# Altium footprint library Трансформаторы импульсные (открытого исполения).PcbLib: 55 footprints (part 3 of 4)
Each footprint in its own frame and in the unit in brackets; x right, y up, seen from the top. Pads: shape width x height; smd on the part's side, far side on the other; paste and mask are expansions set on the pad; w line width, h text height; cw(c..) or ccw(c..) is an arc to the next point about the centre after c.
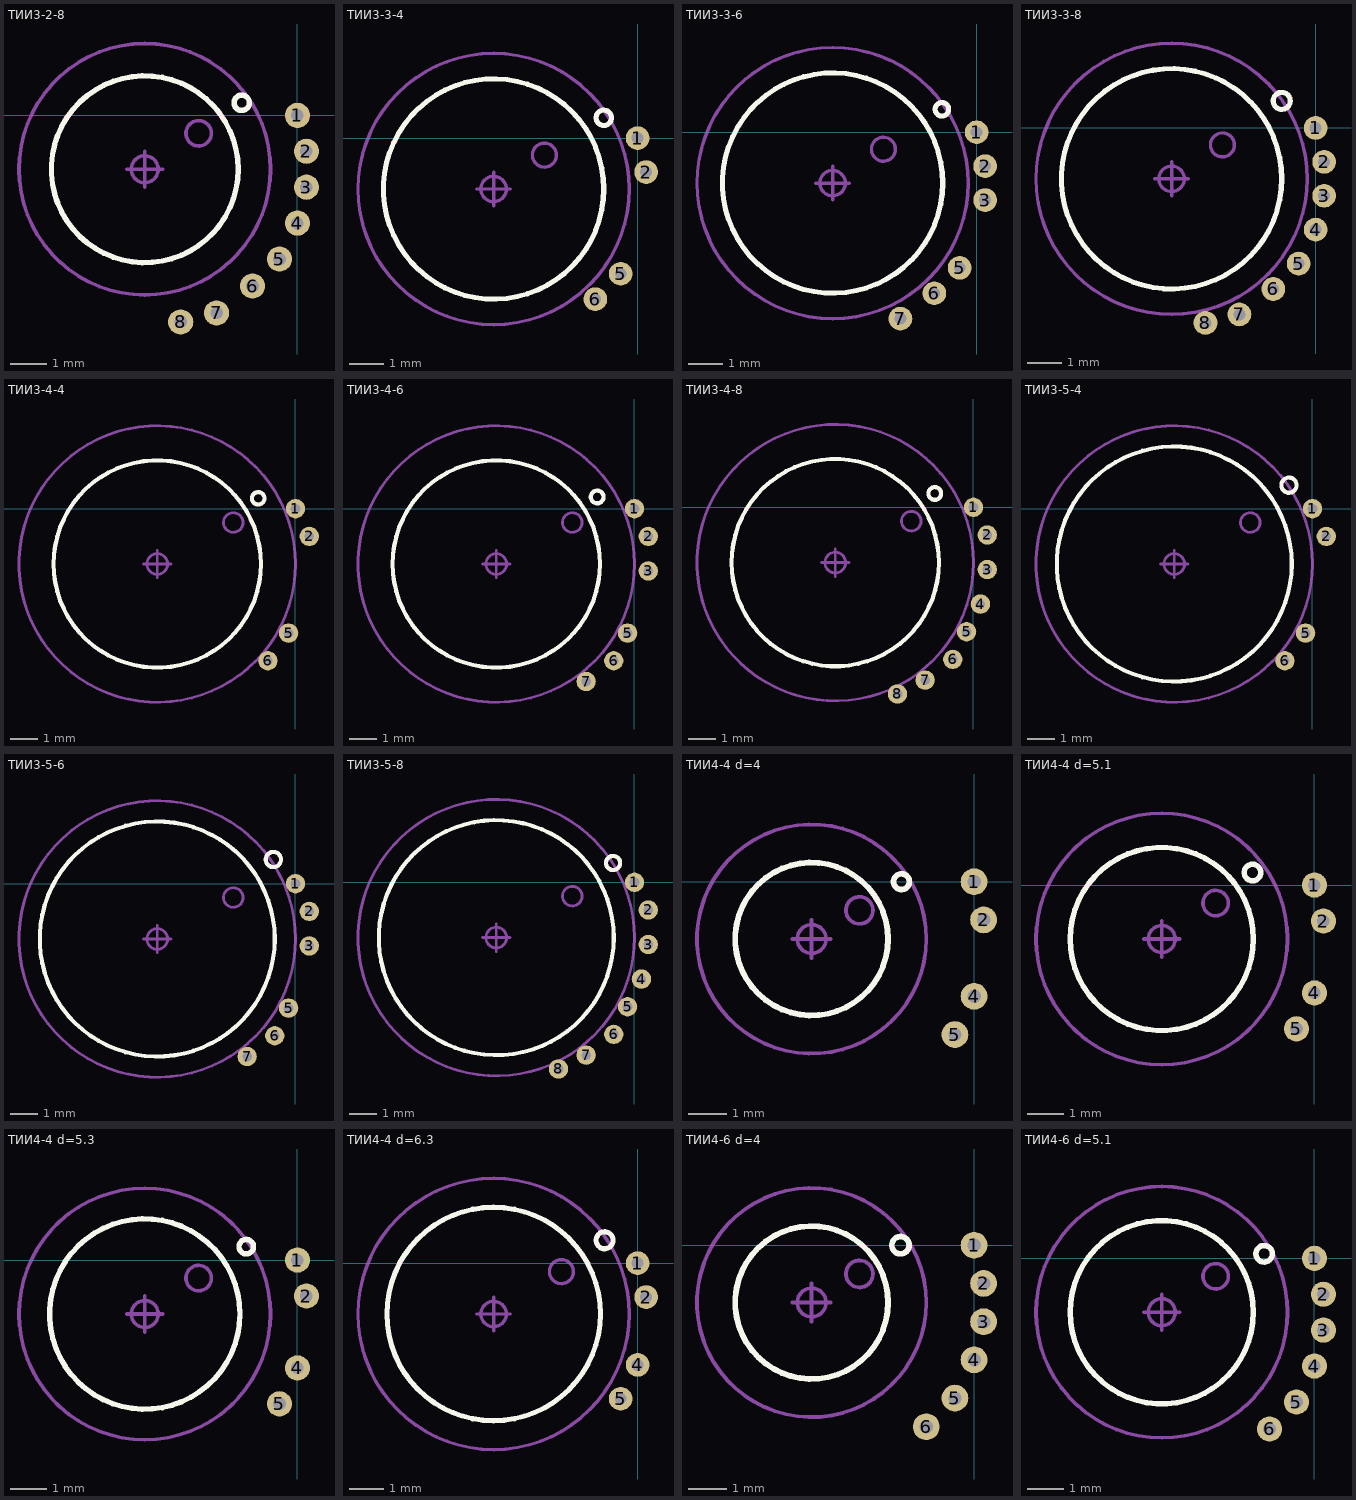
[diagram p2: the footprints below, top view; thin cyan lines are the x and y axes]

## ТИИ3-2-8 [mm] "5,2x5,2x1,7, 0.15g"
height 1.7
pads (8):
  round 0.7 hole 0.35: 1(0,0) 2(0.25,-1) 3(0.25,-2) 4(0,-3) 5(-0.5,-4) 6(-1.25,-4.75) 7(-2.25,-5.5) 8(-3.25,-5.75)
Top Overlay:
  circle w0.15: c-4.25,-1.5 r2.6
  circle w0.15: c-1.55,0.35 r0.214
Top Assembly:
  circle w0.1: c-4.25,-1.5 r2.6
  circle w0.1: c-2.75,-0.5 r0.354
Top Courtyard (Mech15):
  circle w0.1: c-4.25,-1.5 r0.375
  circle w0.1: c-4.25,-1.5 r3.5
  lines w0.1: -4.75,-1.5 -3.75,-1.5 ; -4.25,-2 -4.25,-1
3D body: height 0.25, standoff 0, extent -4.25,-1.5 -4.25,-1.5
3D body: height 0.25, standoff 0, extent -12,-5.5 -12,-5.5

## ТИИ3-3-4 [mm] "6,5x6,5x1,8, 0.25g"
height 1.8
pads (4):
  round 0.7 hole 0.35: 1(0,0) 2(0.25,-1) 5(-0.5,-4) 6(-1.25,-4.75)
Top Overlay:
  circle w0.15: c-1,0.6 r0.226
  circle w0.15: c-4.25,-1.5 r3.25
Top Assembly:
  circle w0.1: c-2.75,-0.5 r0.354
  circle w0.1: c-4.25,-1.5 r3.25
Top Courtyard (Mech15):
  circle w0.1: c-4.25,-1.5 r4
  circle w0.1: c-4.25,-1.5 r0.375
  lines w0.1: -4.75,-1.5 -3.75,-1.5 ; -4.25,-2 -4.25,-1
3D body: height 0.25, standoff 0, extent -12,-5.5 -12,-5.5
3D body: height 0.25, standoff 0, extent -4.25,-1.5 -4.25,-1.5

## ТИИ3-3-6 [mm] "6,5x6,5x1,8, 0.25g"
height 1.8
pads (6):
  round 0.7 hole 0.35: 1(0,0) 2(0.25,-1) 3(0.25,-2) 5(-0.5,-4) 6(-1.25,-4.75) 7(-2.25,-5.5)
Top Overlay:
  circle w0.15: c-1.025,0.675 r0.2
  circle w0.15: c-4.25,-1.5 r3.25
Top Assembly:
  circle w0.1: c-2.75,-0.5 r0.354
  circle w0.1: c-4.25,-1.5 r3.25
Top Courtyard (Mech15):
  circle w0.1: c-4.25,-1.5 r4
  circle w0.1: c-4.25,-1.5 r0.375
  lines w0.1: -4.75,-1.5 -3.75,-1.5 ; -4.25,-2 -4.25,-1
3D body: height 0.25, standoff 0, extent -12,-5.5 -12,-5.5
3D body: height 0.25, standoff 0, extent -4.25,-1.5 -4.25,-1.5

## ТИИ3-3-8 [mm] "6,5x6,5x1,8, 0.25g"
height 1.8
pads (8):
  round 0.7 hole 0.35: 1(0,0) 2(0.25,-1) 3(0.25,-2) 4(0,-3) 5(-0.5,-4) 6(-1.25,-4.75) 7(-2.25,-5.5) 8(-3.25,-5.75)
Top Overlay:
  circle w0.15: c-1,0.8 r0.251
  circle w0.15: c-4.25,-1.5 r3.25
Top Assembly:
  circle w0.1: c-2.75,-0.5 r0.354
  circle w0.1: c-4.25,-1.5 r3.25
Top Courtyard (Mech15):
  circle w0.1: c-4.25,-1.5 r4
  circle w0.1: c-4.25,-1.5 r0.375
  lines w0.1: -4.75,-1.5 -3.75,-1.5 ; -4.25,-2 -4.25,-1
3D body: height 0.25, standoff 0, extent -12,-5.5 -12,-5.5
3D body: height 0.25, standoff 0, extent -4.25,-1.5 -4.25,-1.5

## ТИИ3-4-4 [mm] "7,5x7,5x1,8, 0.4g"
height 1.8
pads (4):
  round 0.7 hole 0.35: 1(0,0) 2(0.5,-1) 5(-0.25,-4.5) 6(-1,-5.5)
Top Overlay:
  circle w0.15: c-1.35,0.375 r0.226
  circle w0.15: c-5,-2 r3.75
Top Assembly:
  circle w0.1: c-2.25,-0.5 r0.354
  circle w0.1: c-5,-2 r3.75
Top Courtyard (Mech15):
  circle w0.1: c-5,-2 r5
  circle w0.1: c-5,-2 r0.375
  lines w0.1: -5.5,-2 -4.5,-2 ; -5,-2.5 -5,-1.5
3D body: height 0.25, standoff 0, extent -12.75,-6 -12.75,-6
3D body: height 0.25, standoff 0, extent -5,-2 -5,-2

## ТИИ3-4-6 [mm] "7,5x7,5x1,8, 0.4g"
height 1.8
pads (6):
  round 0.7 hole 0.35: 1(0,0) 2(0.5,-1) 3(0.5,-2.25) 5(-0.25,-4.5) 6(-0.75,-5.5) 7(-1.75,-6.25)
Top Overlay:
  circle w0.15: c-5,-2 r3.75
  circle w0.15: c-1.35,0.425 r0.23
Top Assembly:
  circle w0.1: c-5,-2 r3.75
  circle w0.1: c-2.25,-0.5 r0.354
Top Courtyard (Mech15):
  circle w0.1: c-5,-2 r0.375
  circle w0.1: c-5,-2 r5
  lines w0.1: -5.5,-2 -4.5,-2 ; -5,-2.5 -5,-1.5
3D body: height 0.25, standoff 0, extent -5,-2 -5,-2
3D body: height 0.25, standoff 0, extent -12.75,-6 -12.75,-6

## ТИИ3-4-8 [mm] "7,5x7,5x1,8, 0.4g"
height 1.8
pads (8):
  round 0.7 hole 0.35: 1(0,0) 2(0.5,-1) 3(0.5,-2.25) 4(0.25,-3.5) 5(-0.25,-4.5) 6(-0.75,-5.5) 7(-1.75,-6.25) 8(-2.75,-6.75)
Top Overlay:
  circle w0.15: c-1.4,0.5 r0.23
  circle w0.15: c-5,-2 r3.75
Top Assembly:
  circle w0.1: c-2.25,-0.5 r0.354
  circle w0.1: c-5,-2 r3.75
Top Courtyard (Mech15):
  circle w0.1: c-5,-2 r5
  circle w0.1: c-5,-2 r0.375
  lines w0.1: -5.5,-2 -4.5,-2 ; -5,-2.5 -5,-1.5
3D body: height 0.25, standoff 0, extent -12.75,-6 -12.75,-6
3D body: height 0.25, standoff 0, extent -5,-2 -5,-2

## ТИИ3-5-4 [mm] "8,5x8,5x2,0, 0.6g"
height 2
pads (4):
  round 0.7 hole 0.35: 1(0,0) 2(0.5,-1) 5(-0.25,-4.5) 6(-1,-5.5)
Top Overlay:
  circle w0.15: c-0.85,0.85 r0.275
  circle w0.15: c-5,-2 r4.25
Top Assembly:
  circle w0.1: c-2.25,-0.5 r0.354
  circle w0.1: c-5,-2 r4.25
Top Courtyard (Mech15):
  circle w0.1: c-5,-2 r5
  circle w0.1: c-5,-2 r0.375
  lines w0.1: -5.5,-2 -4.5,-2 ; -5,-2.5 -5,-1.5
3D body: height 0.25, standoff 0, extent -12.75,-6 -12.75,-6
3D body: height 0.25, standoff 0, extent -5,-2 -5,-2

## ТИИ3-5-6 [mm] "8,5x8,5x2,0, 0.6g"
height 2
pads (6):
  round 0.7 hole 0.35: 1(0,0) 2(0.5,-1) 3(0.5,-2.25) 5(-0.25,-4.5) 6(-0.75,-5.5) 7(-1.75,-6.25)
Top Overlay:
  circle w0.15: c-5,-2 r4.25
  circle w0.15: c-0.8,0.875 r0.275
Top Assembly:
  circle w0.1: c-5,-2 r4.25
  circle w0.1: c-2.25,-0.5 r0.354
Top Courtyard (Mech15):
  circle w0.1: c-5,-2 r0.375
  circle w0.1: c-5,-2 r5
  lines w0.1: -5.5,-2 -4.5,-2 ; -5,-2.5 -5,-1.5
3D body: height 0.25, standoff 0, extent -5,-2 -5,-2
3D body: height 0.25, standoff 0, extent -12.75,-6 -12.75,-6

## ТИИ3-5-8 [mm] "8,5x8,5x2,0, 0.6g"
height 2
pads (8):
  round 0.7 hole 0.35: 1(0,0) 2(0.5,-1) 3(0.5,-2.25) 4(0.25,-3.5) 5(-0.25,-4.5) 6(-0.75,-5.5) 7(-1.75,-6.25) 8(-2.75,-6.75)
Top Overlay:
  circle w0.15: c-0.775,0.7 r0.255
  circle w0.15: c-5,-2 r4.25
Top Assembly:
  circle w0.1: c-2.25,-0.5 r0.354
  circle w0.1: c-5,-2 r4.25
Top Courtyard (Mech15):
  circle w0.1: c-5,-2 r5
  circle w0.1: c-5,-2 r0.375
  lines w0.1: -5.5,-2 -4.5,-2 ; -5,-2.5 -5,-1.5
3D body: height 0.25, standoff 0, extent -12.75,-6 -12.75,-6
3D body: height 0.25, standoff 0, extent -5,-2 -5,-2

## ТИИ4-4 d=4 [mm] "4x4x2,4max, 0.1g max"
height 2.4
pads (4):
  round 0.7 hole 0.35: 1(0,0) 2(0.25,-1) 4(0,-3) 5(-0.5,-4)
Top Overlay:
  circle w0.15: c-1.9,0 r0.206
  circle w0.15: c-4.25,-1.5 r2
Top Assembly:
  circle w0.1: c-3,-0.75 r0.354
  circle w0.1: c-4.25,-1.5 r2
Top Courtyard (Mech15):
  circle w0.1: c-4.25,-1.5 r3
  circle w0.1: c-4.25,-1.5 r0.375
  lines w0.1: -4.75,-1.5 -3.75,-1.5 ; -4.25,-2 -4.25,-1
3D body: height 0.25, standoff 0, extent -12,-5.5 -12,-5.5
3D body: height 0.25, standoff 0, extent -4.25,-1.5 -4.25,-1.5

## ТИИ4-4 d=5.1 [mm] "5,1x5,1x2,5max, 0.2g max"
height 2.5
pads (4):
  round 0.7 hole 0.35: 1(0,0) 2(0.25,-1) 4(0,-3) 5(-0.5,-4)
Top Overlay:
  circle w0.15: c-4.25,-1.5 r2.55
  circle w0.15: c-1.725,0.35 r0.23
Top Assembly:
  circle w0.1: c-4.25,-1.5 r2.55
  circle w0.1: c-2.75,-0.5 r0.354
Top Courtyard (Mech15):
  circle w0.1: c-4.25,-1.5 r0.375
  circle w0.1: c-4.25,-1.5 r3.5
  lines w0.1: -4.75,-1.5 -3.75,-1.5 ; -4.25,-2 -4.25,-1
3D body: height 0.25, standoff 0, extent -4.25,-1.5 -4.25,-1.5
3D body: height 0.25, standoff 0, extent -12,-5.5 -12,-5.5

## ТИИ4-4 d=5.3 [mm] "5,3x5,3x2,7max, 0.2g max"
height 2.7
pads (4):
  round 0.7 hole 0.35: 1(0,0) 2(0.25,-1) 4(0,-3) 5(-0.5,-4)
Top Overlay:
  circle w0.15: c-4.25,-1.5 r2.65
  circle w0.15: c-1.425,0.375 r0.202
Top Assembly:
  circle w0.1: c-4.25,-1.5 r2.65
  circle w0.1: c-2.75,-0.5 r0.354
Top Courtyard (Mech15):
  circle w0.1: c-4.25,-1.5 r0.375
  circle w0.1: c-4.25,-1.5 r3.5
  lines w0.1: -4.75,-1.5 -3.75,-1.5 ; -4.25,-2 -4.25,-1
3D body: height 0.25, standoff 0, extent -4.25,-1.5 -4.25,-1.5
3D body: height 0.25, standoff 0, extent -12,-5.5 -12,-5.5

## ТИИ4-4 d=6.3 [mm] "6,3x6,3x2,9max, 0.3g max"
height 2.9
pads (4):
  round 0.7 hole 0.35: 1(0,0) 2(0.25,-1) 4(0,-3) 5(-0.5,-4)
Top Overlay:
  circle w0.15: c-4.25,-1.5 r3.15
  circle w0.15: c-0.975,0.675 r0.251
Top Assembly:
  circle w0.1: c-4.25,-1.5 r3.15
  circle w0.1: c-2.25,-0.25 r0.354
Top Courtyard (Mech15):
  circle w0.1: c-4.25,-1.5 r0.375
  circle w0.1: c-4.25,-1.5 r4
  lines w0.1: -4.75,-1.5 -3.75,-1.5 ; -4.25,-2 -4.25,-1
3D body: height 0.25, standoff 0, extent -4.25,-1.5 -4.25,-1.5
3D body: height 0.25, standoff 0, extent -12,-5.5 -12,-5.5

## ТИИ4-6 d=4 [mm] "4x4x2,4max, 0.1g max"
height 2.4
pads (6):
  round 0.7 hole 0.35: 1(0,0) 2(0.25,-1) 3(0.25,-2) 4(0,-3) 5(-0.5,-4) 6(-1.25,-4.75)
Top Overlay:
  circle w0.15: c-1.925,0 r0.226
  circle w0.15: c-4.25,-1.5 r2
Top Assembly:
  circle w0.1: c-3,-0.75 r0.354
  circle w0.1: c-4.25,-1.5 r2
Top Courtyard (Mech15):
  circle w0.1: c-4.25,-1.5 r3
  circle w0.1: c-4.25,-1.5 r0.375
  lines w0.1: -4.75,-1.5 -3.75,-1.5 ; -4.25,-2 -4.25,-1
3D body: height 0.25, standoff 0, extent -12,-5.5 -12,-5.5
3D body: height 0.25, standoff 0, extent -4.25,-1.5 -4.25,-1.5

## ТИИ4-6 d=5.1 [mm] "5,1x5,1x2,5max, 0.2g max"
height 2.5
pads (6):
  round 0.7 hole 0.35: 1(0,0) 2(0.25,-1) 3(0.25,-2) 4(0,-3) 5(-0.5,-4) 6(-1.25,-4.75)
Top Overlay:
  circle w0.15: c-4.25,-1.5 r2.55
  circle w0.15: c-1.4,0.125 r0.23
Top Assembly:
  circle w0.1: c-4.25,-1.5 r2.55
  circle w0.1: c-2.75,-0.5 r0.354
Top Courtyard (Mech15):
  circle w0.1: c-4.25,-1.5 r0.375
  circle w0.1: c-4.25,-1.5 r3.5
  lines w0.1: -4.75,-1.5 -3.75,-1.5 ; -4.25,-2 -4.25,-1
3D body: height 0.25, standoff 0, extent -4.25,-1.5 -4.25,-1.5
3D body: height 0.25, standoff 0, extent -12,-5.5 -12,-5.5